# EAGLE library part TPD4S014_DSQ_10 (library TPD4S014)
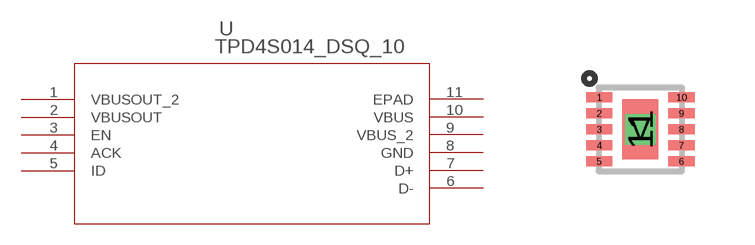
[diagram p0: symbol with the pads of DSQ10_1P5X0P9; footprint DSQ10_1P5X0P9]

Designator prefix U

## TPD4S014_DSQ_10 (DATASHEETURL: httpwww.ti.comlitgpnTPD4S014; FAMILY_NAME: ESD Solution; GENERIC_PART_NUMBER: TPD4S014; INDUSTRY_STD_PKG_TYPE: SON; MANUFACTURER: Texas Instruments; MANUFACTURER_PART_NUMBER: tpd4s014_dsq_10; PACKAGE_DESIGNATOR: DSQ; PIN_COUNT: 10; VENDOR: Texas Instruments)  [DSQ10_1P5X0P9]
1  VBUSOUT_2  out
2  VBUSOUT  out
3  EN  in
4  ACK  out
5  ID
6  D-
7  D+
8  GND  pwr
9  VBUS_2  pwr
10  VBUS  pwr
11  EPAD  pas

## Footprint DSQ10_1P5X0P9 (pad centres in mm)
smd 0.655 x 0.25: 1 -1.027,0.8; 2 -1.027,0.4; 3 -1.027,0; 4 -1.027,-0.4; 5 -1.027,-0.8; 6 1.027,-0.8; 7 1.027,-0.4; 8 1.027,0; 9 1.027,0.4; 10 1.027,0.8
smd 0.9 x 1.5: 11 0,0
drill 0.254 pad 0.508 square: V 0,0